# Altium schematic symbol library Diode.SchLib: 12 symbols
Pins are listed as number, name and electrical type; pins without a type are passive.

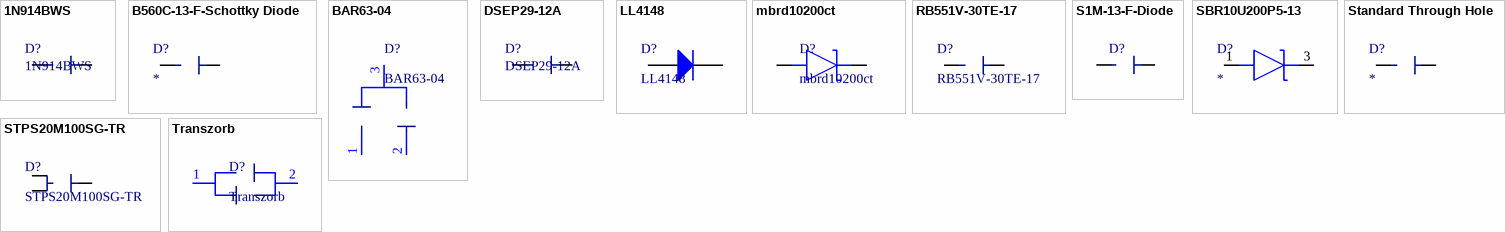
[diagram p0: symbols 1N914BWS to Transzorb]

## 1N914BWS
designator D?
1N914, Diode, Small Signal, Fast Switching, 100V, 300mA; Supplier 1: Farnell; Supplier Part Number 1: 2453274
footprint 1N914BWS (Signal Diode)
pins: 1, 2

## B560C-13-F-Schottky Diode
designator D?
Supplier 1: Farnell; Supplier 2: RSComponents; Supplier 3: Mouser
footprint B560C-13-F - Schottky Diode (60 V, 5 A, Single, SMD, 2 Pins, 700 mV)
pins: 1, 2

## BAR63-04
designator D?
PIN Diodes; Supplier 1: Farnell; Supplier Part Number 1: 2725717
footprint BAR63-04 (PIN Diode)
pins: 1, 2, 3

## DSEP29-12A
designator D?
Fast / Ultrafast Diode, 1.2 kV, 30 A; Supplier 1: Mouser; Supplier 2: Octopart; Supplier 3: Octopart; Supplier Part Number 1: 747-DSEP29-12A; Supplier Part Number 2: Farnell - 1427266; Supplier Part Number 3: RS Components - 7614072
footprint DSEP29-12A (Fast / Ultrafast Diode, 1.2 kV, 30 A)
pins: 1, 2

## LL4148
designator D?
Small Signal Diode, Single, 100 V, 150 mA, 1 V, 8 ns, 2 A; Supplier 1: Farnell; Supplier Part Number 1: 9549986
footprint LL4148 (Diode)
pins: 1 K, 2 A

## mbrd10200ct
designator D?
Schottky  VRRM: 200 V  Io: 10 A; Supplier 1: Digi-Key; Supplier 2: Farnell; Supplier 3: Mouser; Supplier Part Number 1: 1655-1939-1-ND; Supplier Part Number 2: 2773825; Supplier Part Number 3: 576-MBRD10200CT
footprint SMC_DPAC
pins: 1, 2

## RB551V-30TE-17
designator D?
Small Signal Schottky Diode, Single, 30 V, 500 mA, 470 mV, 2 A; Supplier 1: Farnell; Supplier Part Number 1: 1680033
footprint RB551V-30TE-17 (2A, small signal diode)
pins: 1, 2

## S1M-13-F-Diode
designator D?, comment Standard Recovery Diode, 1 kV, 1 A, Single, 1.1 V, 1.8 µs, 30 A  (value not drawn)
Supplier 1: Farnell; Supplier Part Number 1: 1773482RL
footprint S1M-13-F- Diode (Standard Recovery Diode, 1 kV, 1 A, Single, 1.1 V, 1.8 µs, 30 A)
pins: 1, 2

## SBR10U200P5-13
designator D?
SBR10U200P5-13 -  Schottky Rectifier, 200 V, 10 A, Single, PowerDI 5, 3 Pins, 880 mV; Supplier 1: Farnell; Supplier 2: RSComponents; Supplier 3: RSComponents; Supplier 4: Mouser; Supplier 5: Element14; Supplier Part Number 1: 2543577; Supplier Part Number 2: 7514862P; Supplier Part Number 3: 7514862; Supplier Part Number 4: 621-SBR10U200P5-13; Supplier Part Number 5: 2543577
footprint PowerDI 5 (PowerD15)
pins: 1, 3

## Standard Through Hole
designator D?
footprint Through_Hole_Diode
footprint THOUGH_HOLE_SMALL
pins: 1, 2

## STPS20M100SG-TR
designator D?
Small Signal Schottky Diode, Single, 100 V, 20 A; Supplier 1: Mouser; Supplier Part Number 1: 511-STPS20M100SG-TR; Supplier 2: RSComponents; Supplier Part Number 2: 880-5437P
footprint STPS20M100SG-TR (Small Signal Schottky Diode, Single, 100 V, 20 A)
pins: 1, 2, 3

## Transzorb
designator D?
Supplier 1: Farnell; Supplier 2: RSComponents; Supplier 3: Mouser; Supplier 4: Farnell; Supplier Part Number 1: 2728683; Supplier Part Number 2: 1621461; Supplier Part Number 3: 78-SMBJ15CD-M3/H; Supplier Part Number 4: 2728683RL
footprint SMBJ (Molded Diode, 2-Leads, Body 4.31x3.40mm, IPC High Density)
pins: 1, 2